# EAGLE library part ESP8266_ESP07 (library DECADE-libraries20151104)
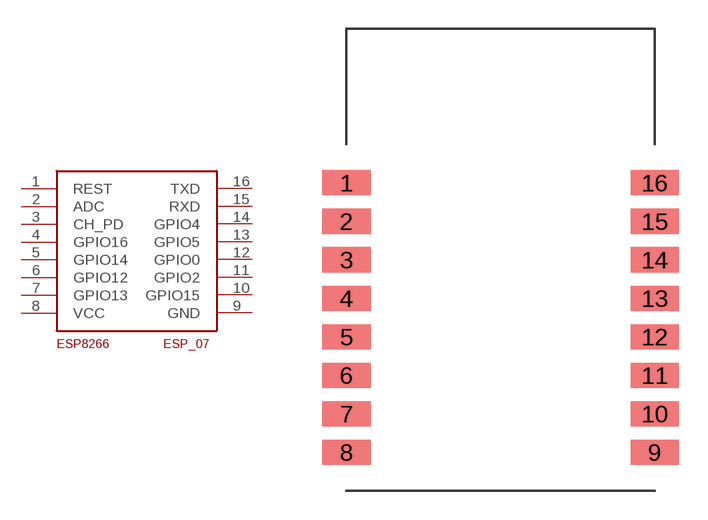
[diagram p131: symbol with the pads of ESP07; footprint ESP07]

Designator prefix -

## ESP8266_ESP07  [ESP07]
1  REST
2  ADC
3  CH_PD
4  GPIO16
5  GPIO14
6  GPIO12
7  GPIO13
8  VCC
9  GND
10  GPIO15
11  GPIO2
12  GPIO0
13  GPIO5
14  GPIO4
15  RXD
16  TXD

## Footprint ESP07 (pad centres in mm)
smd 2.5 x 1.3: 1 -8,16; 2 -8,14; 3 -8,12; 4 -8,10; 5 -8,8; 6 -8,6; 7 -8,4; 8 -8,2; 9 8,2; 10 8,4; 11 8,6; 12 8,8; 13 8,10; 14 8,12; 15 8,14; 16 8,16